# Altium integrated library Linear Technology Power Management Switching Regulator LT1074-LT8705.IntLib: 2252 symbols (part 116 of 148)
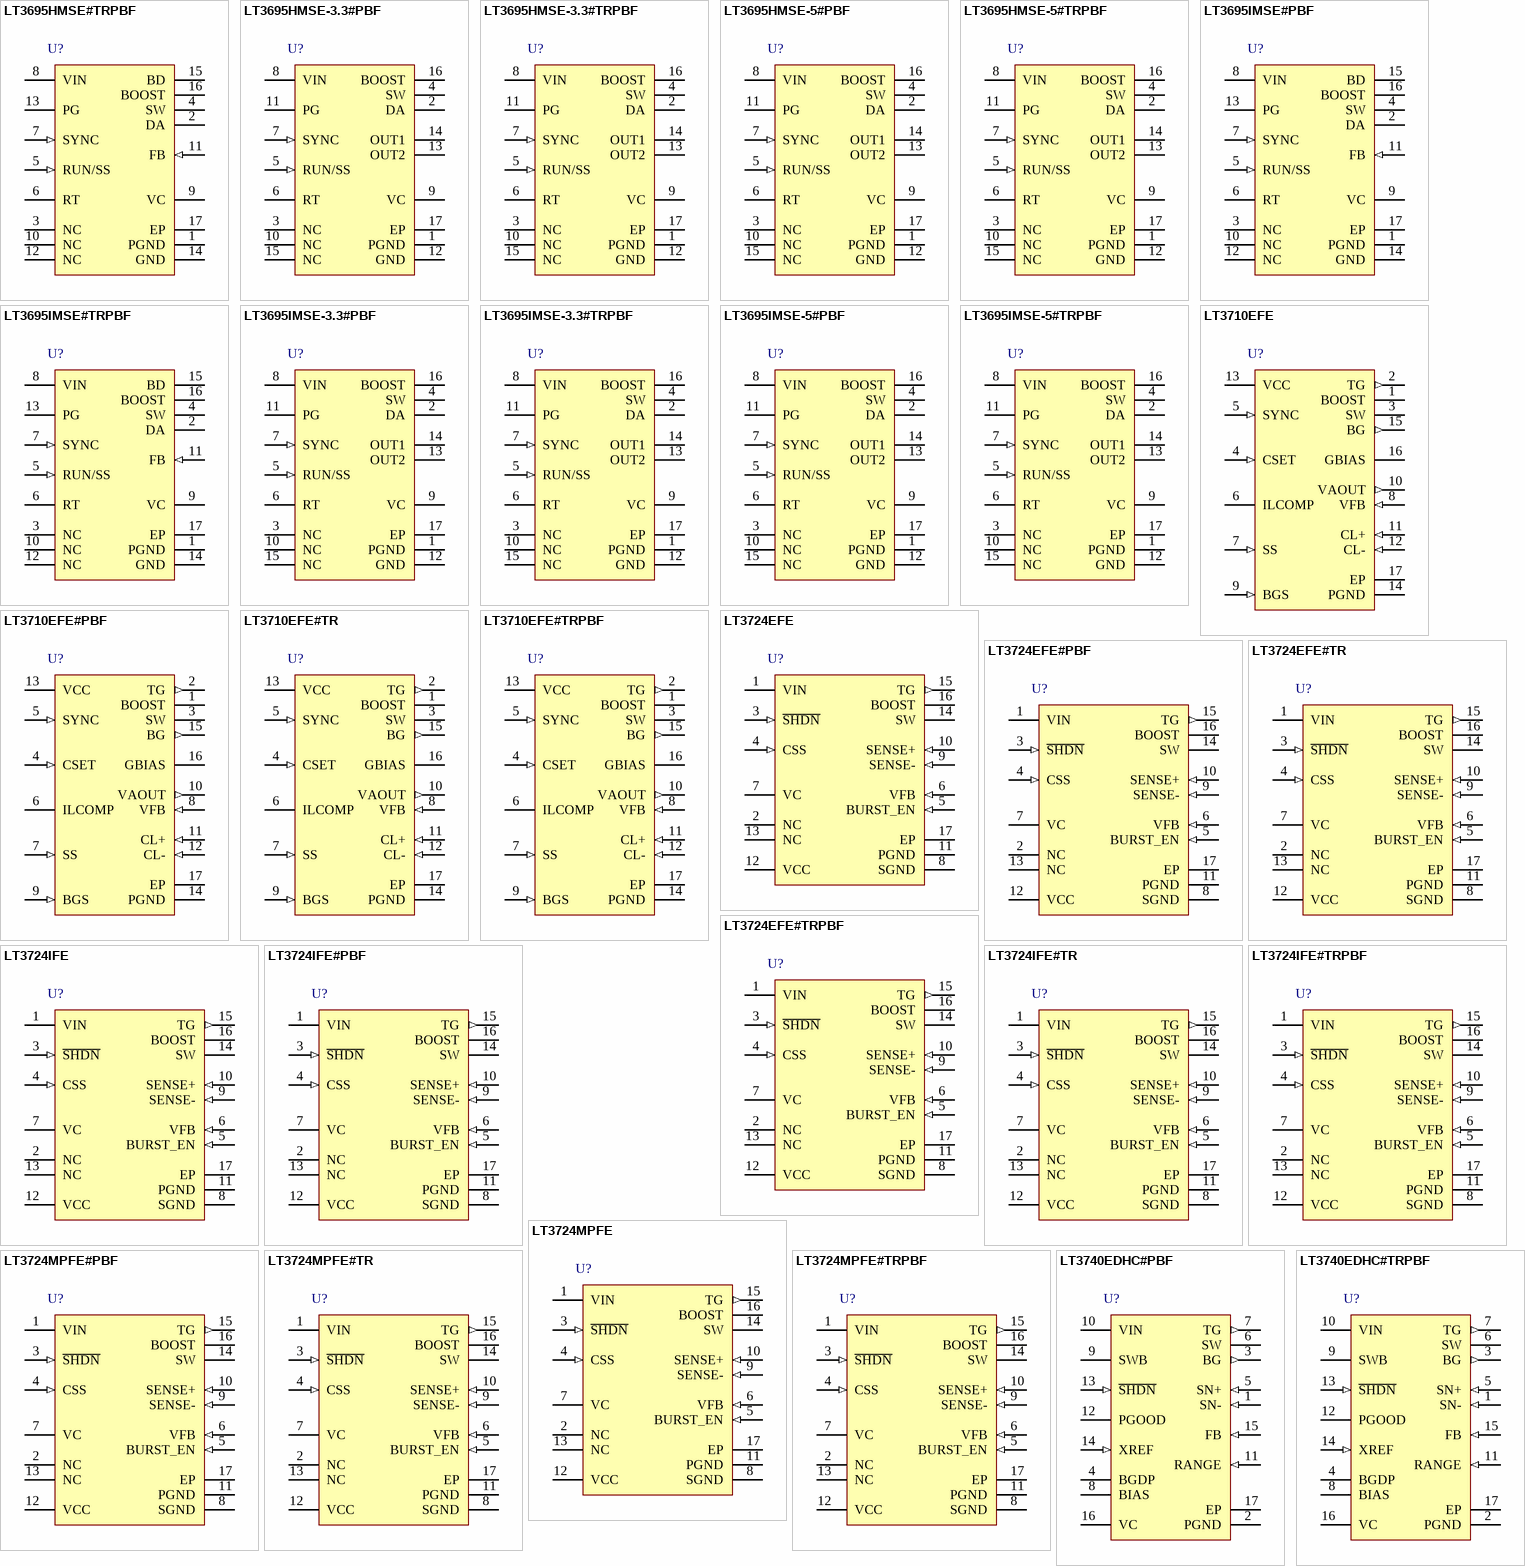
[diagram p186: symbols LT3695HMSE#TRPBF to LT3740EDHC#TRPBF]

## LT3710EFE#PBF
designator U?
Secondary Side Synchronous Post Regulator, Auxiliary Output in Isolated Power Supplies, 16-pin SOP (FE-16-EPV-BA), -40 to 125 degC, Pb-Free; Manufacturer: Linear Technology; PartNumber: LT3710EFE#PBF; Number of Outputs: 1; PackageVersion: Rev. I, 05/2011; PackageReference: FE-16; PackageDescription: 16-Pin Plastic TSSOP, Body 5 x 4.4 mm, Pitch 0.65 mm; Supplier 1: Digi-Key; Supplier Part Number 1: LT3710EFE#PBF-ND; Supplier 2: Newark; Supplier Part Number 2: 57M8577; RoHS: TRUE; Mounting Technology: Surface Mount; ComponentLink1Description: Manufacturer URL; ComponentLink1URL: http://www.linear.com/; ComponentLink2Description: Datasheet; ComponentLink2URL: http://cds.linear.com/docs/en/datasheet/3710f.pdf; ComponentLink3Description: Package Specification; ComponentLink3URL: http://cds.linear.com/docs/en/packaging/05081663_J_FE16(BA).pdf
footprint LT-FE-16-EPV-BA_N (SOP, 16-Leads, Body 5x4.4mm, Pitch 0.65mm, Thermal Pad 2.74x2.74mm, IPC Medium Density)
footprint LT-FE-16-EPV-BA_L (SOP, 16-Leads, Body 5x4.4mm, Pitch 0.65mm, Thermal Pad 2.74x2.74mm, IPC High Density)
footprint LT-FE-16-EPV-BA_M (SOP, 16-Leads, Body 5x4.4mm, Pitch 0.65mm, Thermal Pad 2.74x2.74mm, IPC Low Density)
pins: 1 BOOST "Topside (Boosted) Driver Supply. This pin is used to bootstrap and supply the topside power switch gate drive circuitry. In normal operation VBOOST is powered from the internally generated 8V GBIAS, VBOOST = VSW + 8.2V when (See Datasheet)", 2 TG (out) "Topside (Boosted) N-Channel MOSFET Driver. When TGATE is on, the voltage is equal to VSW + 6V.", 3 SW "Switch Node Connection to Inductor.", 4 CSET (in) "Oscillator Timing Pin. The capacitor on this pin sets the PWM switching frequency.", 5 SYNC (in) "Synchronization Input. This pin should be connected to the secondary side output of the power transformer with a series resistor. A filtering capacitor of 10pF is recommended.", 6 ILCOMP "Current Limit Amplifier Compensation Node. At current limit, CA1 pulls down on this pin to regulate the output current.", 7 SS (in) "Soft-Start. A capacitor on this pin sets the output ramp up rate. The typical time for SS to reach the programmed level is (C ?0.8V)/10uA.", 8 VFB (in) "Voltage Amplifier Inverting Input. A resistor divider to this pin sets the output voltage. Nominal voltage at this pin is 0.8V.", 9 BGS (in) "Bottom Gate Switching Control. CA2 monitors the inductor current and prohibits BGATE from turning on when the inductor current is low (below 8mV across the current sense resistor RS1) to allow discontinous mode operation. (See Datasheet)", 10 VAOUT (out) "Voltage Amplifier Output.", 11 CL+ (in) "Current Limit Amplifier Positive Input. The threshold is set at 70mV.", 12 CL- (in) "Current Limit Amplifier Negative Input. When used, CL- is connected to the output capacitor side of the current + sense resistor and CL+ is connected to the inductor side of the current sense resistor.", 13 VCC (power) "Supply of the IC. For proper bypassing, a low ESR capacitor is required.", 14 PGND (power) "Ground of the Bottom Side N-Channel MOSFET Driver.", 15 BG (out) "Bottom Side N-Channel MOSFET Driver.", 16 GBIAS "8V Regulator Output for Boostrapping VBOOST . A bypass capacitor of at least 2uF is needed.", 17 EP (power) "Connect to PGND (Pin 14)."

## LT3710EFE#TR
designator U?
Secondary Side Synchronous Post Regulator, Auxiliary Output in Isolated Power Supplies, 16-pin SOP (FE-16-EPV-BA), -40 to 125 degC, Tape and Reel; Manufacturer: Linear Technology; PartNumber: LT3710EFE#TR; Number of Outputs: 1; PackageVersion: Rev. I, 05/2011; PackageReference: FE-16; PackageDescription: 16-Pin Plastic TSSOP, Body 5 x 4.4 mm, Pitch 0.65 mm; Supplier 1: Digi-Key; Supplier Part Number 1: LT3710EFE#TR-ND; Packing: Tape and Reel; RoHS: FALSE; Mounting Technology: Surface Mount; ComponentLink1Description: Manufacturer URL; ComponentLink1URL: http://www.linear.com/; ComponentLink2Description: Datasheet; ComponentLink2URL: http://cds.linear.com/docs/en/datasheet/3710f.pdf; ComponentLink3Description: Package Specification; ComponentLink3URL: http://cds.linear.com/docs/en/packaging/05081663_J_FE16(BA).pdf
footprint LT-FE-16-EPV-BA_N (SOP, 16-Leads, Body 5x4.4mm, Pitch 0.65mm, Thermal Pad 2.74x2.74mm, IPC Medium Density)
footprint LT-FE-16-EPV-BA_L (SOP, 16-Leads, Body 5x4.4mm, Pitch 0.65mm, Thermal Pad 2.74x2.74mm, IPC High Density)
footprint LT-FE-16-EPV-BA_M (SOP, 16-Leads, Body 5x4.4mm, Pitch 0.65mm, Thermal Pad 2.74x2.74mm, IPC Low Density)
pins: 1 BOOST "Topside (Boosted) Driver Supply. This pin is used to bootstrap and supply the topside power switch gate drive circuitry. In normal operation VBOOST is powered from the internally generated 8V GBIAS, VBOOST = VSW + 8.2V when (See Datasheet)", 2 TG (out) "Topside (Boosted) N-Channel MOSFET Driver. When TGATE is on, the voltage is equal to VSW + 6V.", 3 SW "Switch Node Connection to Inductor.", 4 CSET (in) "Oscillator Timing Pin. The capacitor on this pin sets the PWM switching frequency.", 5 SYNC (in) "Synchronization Input. This pin should be connected to the secondary side output of the power transformer with a series resistor. A filtering capacitor of 10pF is recommended.", 6 ILCOMP "Current Limit Amplifier Compensation Node. At current limit, CA1 pulls down on this pin to regulate the output current.", 7 SS (in) "Soft-Start. A capacitor on this pin sets the output ramp up rate. The typical time for SS to reach the programmed level is (C ?0.8V)/10uA.", 8 VFB (in) "Voltage Amplifier Inverting Input. A resistor divider to this pin sets the output voltage. Nominal voltage at this pin is 0.8V.", 9 BGS (in) "Bottom Gate Switching Control. CA2 monitors the inductor current and prohibits BGATE from turning on when the inductor current is low (below 8mV across the current sense resistor RS1) to allow discontinous mode operation. (See Datasheet)", 10 VAOUT (out) "Voltage Amplifier Output.", 11 CL+ (in) "Current Limit Amplifier Positive Input. The threshold is set at 70mV.", 12 CL- (in) "Current Limit Amplifier Negative Input. When used, CL- is connected to the output capacitor side of the current + sense resistor and CL+ is connected to the inductor side of the current sense resistor.", 13 VCC (power) "Supply of the IC. For proper bypassing, a low ESR capacitor is required.", 14 PGND (power) "Ground of the Bottom Side N-Channel MOSFET Driver.", 15 BG (out) "Bottom Side N-Channel MOSFET Driver.", 16 GBIAS "8V Regulator Output for Boostrapping VBOOST . A bypass capacitor of at least 2uF is needed.", 17 EP (power) "Connect to PGND (Pin 14)."

## LT3710EFE#TRPBF
designator U?
Secondary Side Synchronous Post Regulator, Auxiliary Output in Isolated Power Supplies, 16-pin SOP (FE-16-EPV-BA), -40 to 125 degC, Pb-Free, Tape and Reel; Manufacturer: Linear Technology; PartNumber: LT3710EFE#TRPBF; Number of Outputs: 1; PackageVersion: Rev. I, 05/2011; PackageReference: FE-16; PackageDescription: 16-Pin Plastic TSSOP, Body 5 x 4.4 mm, Pitch 0.65 mm; Supplier 1: Digi-Key; Supplier Part Number 1: LT3710EFE#TRPBF-ND; Packing: Tape and Reel; RoHS: TRUE; Mounting Technology: Surface Mount; ComponentLink1Description: Manufacturer URL; ComponentLink1URL: http://www.linear.com/; ComponentLink2Description: Datasheet; ComponentLink2URL: http://cds.linear.com/docs/en/datasheet/3710f.pdf; ComponentLink3Description: Package Specification; ComponentLink3URL: http://cds.linear.com/docs/en/packaging/05081663_J_FE16(BA).pdf
footprint LT-FE-16-EPV-BA_N (SOP, 16-Leads, Body 5x4.4mm, Pitch 0.65mm, Thermal Pad 2.74x2.74mm, IPC Medium Density)
footprint LT-FE-16-EPV-BA_L (SOP, 16-Leads, Body 5x4.4mm, Pitch 0.65mm, Thermal Pad 2.74x2.74mm, IPC High Density)
footprint LT-FE-16-EPV-BA_M (SOP, 16-Leads, Body 5x4.4mm, Pitch 0.65mm, Thermal Pad 2.74x2.74mm, IPC Low Density)
pins: 1 BOOST "Topside (Boosted) Driver Supply. This pin is used to bootstrap and supply the topside power switch gate drive circuitry. In normal operation VBOOST is powered from the internally generated 8V GBIAS, VBOOST = VSW + 8.2V when (See Datasheet)", 2 TG (out) "Topside (Boosted) N-Channel MOSFET Driver. When TGATE is on, the voltage is equal to VSW + 6V.", 3 SW "Switch Node Connection to Inductor.", 4 CSET (in) "Oscillator Timing Pin. The capacitor on this pin sets the PWM switching frequency.", 5 SYNC (in) "Synchronization Input. This pin should be connected to the secondary side output of the power transformer with a series resistor. A filtering capacitor of 10pF is recommended.", 6 ILCOMP "Current Limit Amplifier Compensation Node. At current limit, CA1 pulls down on this pin to regulate the output current.", 7 SS (in) "Soft-Start. A capacitor on this pin sets the output ramp up rate. The typical time for SS to reach the programmed level is (C ?0.8V)/10uA.", 8 VFB (in) "Voltage Amplifier Inverting Input. A resistor divider to this pin sets the output voltage. Nominal voltage at this pin is 0.8V.", 9 BGS (in) "Bottom Gate Switching Control. CA2 monitors the inductor current and prohibits BGATE from turning on when the inductor current is low (below 8mV across the current sense resistor RS1) to allow discontinous mode operation. (See Datasheet)", 10 VAOUT (out) "Voltage Amplifier Output.", 11 CL+ (in) "Current Limit Amplifier Positive Input. The threshold is set at 70mV.", 12 CL- (in) "Current Limit Amplifier Negative Input. When used, CL- is connected to the output capacitor side of the current + sense resistor and CL+ is connected to the inductor side of the current sense resistor.", 13 VCC (power) "Supply of the IC. For proper bypassing, a low ESR capacitor is required.", 14 PGND (power) "Ground of the Bottom Side N-Channel MOSFET Driver.", 15 BG (out) "Bottom Side N-Channel MOSFET Driver.", 16 GBIAS "8V Regulator Output for Boostrapping VBOOST . A bypass capacitor of at least 2uF is needed.", 17 EP (power) "Connect to PGND (Pin 14)."

## LT3724EFE
designator U?
High Voltage, Current Mode Switching Regulator Controller, 16-pin SOP (FE-16-EPV-BC), -40 to 125 degC; Manufacturer: Linear Technology; PartNumber: LT3724EFE; Number of Outputs: 1; DatasheetVersion: Rev. D; PackageVersion: Rev. J, 11/2012; PackageReference: FE-16; PackageDescription: 16-Pin Plastic TSSOP, Body 5 x 4.4 mm, Pitch 0.65 mm; Supplier 1: Newark; Supplier Part Number 1: 57M8580; RoHS: FALSE; Mounting Technology: Surface Mount; ComponentLink1Description: Manufacturer URL; ComponentLink1URL: http://www.linear.com/; ComponentLink2Description: Datasheet; ComponentLink2URL: http://cds.linear.com/docs/en/datasheet/3724fd.pdf; ComponentLink3Description: Package Specification; ComponentLink3URL: http://cds.linear.com/docs/en/packaging/05081663__J_FE16(BC).pdf
footprint LT-FE-16-EPV-BC_N (SOP, 16-Leads, Body 5.1x4.5mm, Pitch 0.65mm, Thermal Pad 3.58x2.94mm, IPC Medium Density)
footprint LT-FE-16-EPV-BC_L (SOP, 16-Leads, Body 5.1x4.5mm, Pitch 0.65mm, Thermal Pad 3.58x2.94mm, IPC High Density)
footprint LT-FE-16-EPV-BC_M (SOP, 16-Leads, Body 5.1x4.5mm, Pitch 0.65mm, Thermal Pad 3.58x2.94mm, IPC Low Density)
pins: 1 VIN (power) "The VIN pin is the main supply pin and should be decoupled to SGND with a low ESR capacitor located close to the pin.", 2 NC "No Connection.", 3 ~{SHDN} (in) "The S\H\D\N\ pin has a precision IC enable threshold of 1.35V (rising) with 120mV of hysteresis. It is used to implement an undervoltage lockout (UVLO) circuit. See Application Information section for implementing a UVLO (See Datasheet)", 4 CSS (in) "The soft-start pin is used to program the supply soft-start function. The pin is connected to VOUT via a ceramic capacitor (CSS) and 200kohm series resistor. During start-up, the supply output voltage slew rate is controlled (See Datasheet)", 5 BURST_EN (in) "The BURST_EN pin is used to enable or disable Burst Mode operation. Connect the BURST_EN pin to ground to enable the burst mode function. Connect the pin to VCC to disable the burst mode function.", 6 VFB (in) "The output voltage feedback pin, VFB, is externally connected to the supply output voltage via a resistive divider. The VFB pin is internally connected to the inverting input of the error amplifier. In regulation, VFB is 1.(See Datasheet)", 7 VC "The VC pin is the output of the error amplifier whose voltage corresponds to the maximum (peak) switch current per oscillator cycle. The error amplifier is typically configured as an integrator circuit by connecting an RC (See Datasheet)", 8 SGND (power) "The SGND pin is the low noise ground reference. It should be connected to the -VOUT side of the output capacitors. Careful layout of the PCB is necessary to keep high currents away from this SGND connection. See the (See Datasheet)", 9 SENSE- (in) "The SENSE- pin is the negative input for the current sense amplifier and is connected to the VOUT side of the sense resistor for step-down applications. The sensed inductor current limit is set to 150mV across the SENSE (See Datasheet)", 10 SENSE+ (in) "The SENSE+ pin is the positive input for the current sense amplifier and is connected to the inductor side of the sense resistor for step-down applications. The sensed inductor current limit is set to 150mV across the SENSE (See Datasheet)", 11 PGND (power) "The PGND pin is the high-current ground reference for internal low side switch and the VCC regulator circuit. Connect the pin directly to the negative terminal of the VCC decoupling capacitor. See the Application Information (See Datasheet)", 12 VCC (power) "The VCC pin is the internal bias supply decoupling node. Use a low ESR 1uF ceramic capacitor to decouple this node to PGND. Most internal IC functions are powered from this bias supply. An external diode connected from VCC (See Datasheet)", 13 NC "No Connection.", 14 SW "In step-down applications the SW pin is connected to the cathode of an external clamping Schottky diode, the source of the power MOSFET and the inductor. The SW node voltage swing is from VIN during the on-time of the power (See Datasheet)", 15 TG (out) "The TG pin is the bootstrapped gate drive for the top N-Channel MOSFET. Since very fast high currents are driven from this pin, connect it to the gate of the power MOSFET with a short and wide, typically 0.02?width, PC(See Datasheet)", 16 BOOST "The BOOST pin is the supply for the bootstrapped gate drive and is externally connected to a low ESR ceramic boost capacitor referenced to SW pin. The recommended value of the BOOST capacitor, CBOOST, is 50 times greater (See Datasheet)", 17 EP (power) "The exposed leadframe is internally connected to the SGND pin. Solder the exposed pad to the PCB ground for electrical contact and optimal thermal performance."

## LT3724EFE#PBF
designator U?
High Voltage, Current Mode Switching Regulator Controller, 16-pin SOP (FE-16-EPV-BC), -40 to 125 degC, Pb-Free; Manufacturer: Linear Technology; PartNumber: LT3724EFE#PBF; Number of Outputs: 1; DatasheetVersion: Rev. D; PackageVersion: Rev. J, 11/2012; PackageReference: FE-16; PackageDescription: 16-Pin Plastic TSSOP, Body 5 x 4.4 mm, Pitch 0.65 mm; Supplier 1: Digi-Key; Supplier Part Number 1: LT3724EFE#PBF-ND; Supplier 2: Farnell; Supplier Part Number 2: 1273820; Supplier 3: Newark; Supplier Part Number 3: 57M8581; RoHS: TRUE; Mounting Technology: Surface Mount; ComponentLink1Description: Manufacturer URL; ComponentLink1URL: http://www.linear.com/; ComponentLink2Description: Datasheet; ComponentLink2URL: http://cds.linear.com/docs/en/datasheet/3724fd.pdf; ComponentLink3Description: Package Specification; ComponentLink3URL: http://cds.linear.com/docs/en/packaging/05081663__J_FE16(BC).pdf
footprint LT-FE-16-EPV-BC_N (SOP, 16-Leads, Body 5.1x4.5mm, Pitch 0.65mm, Thermal Pad 3.58x2.94mm, IPC Medium Density)
footprint LT-FE-16-EPV-BC_L (SOP, 16-Leads, Body 5.1x4.5mm, Pitch 0.65mm, Thermal Pad 3.58x2.94mm, IPC High Density)
footprint LT-FE-16-EPV-BC_M (SOP, 16-Leads, Body 5.1x4.5mm, Pitch 0.65mm, Thermal Pad 3.58x2.94mm, IPC Low Density)
pins: 1 VIN (power) "The VIN pin is the main supply pin and should be decoupled to SGND with a low ESR capacitor located close to the pin.", 2 NC "No Connection.", 3 ~{SHDN} (in) "The S\H\D\N\ pin has a precision IC enable threshold of 1.35V (rising) with 120mV of hysteresis. It is used to implement an undervoltage lockout (UVLO) circuit. See Application Information section for implementing a UVLO (See Datasheet)", 4 CSS (in) "The soft-start pin is used to program the supply soft-start function. The pin is connected to VOUT via a ceramic capacitor (CSS) and 200kohm series resistor. During start-up, the supply output voltage slew rate is controlled (See Datasheet)", 5 BURST_EN (in) "The BURST_EN pin is used to enable or disable Burst Mode operation. Connect the BURST_EN pin to ground to enable the burst mode function. Connect the pin to VCC to disable the burst mode function.", 6 VFB (in) "The output voltage feedback pin, VFB, is externally connected to the supply output voltage via a resistive divider. The VFB pin is internally connected to the inverting input of the error amplifier. In regulation, VFB is 1.(See Datasheet)", 7 VC "The VC pin is the output of the error amplifier whose voltage corresponds to the maximum (peak) switch current per oscillator cycle. The error amplifier is typically configured as an integrator circuit by connecting an RC (See Datasheet)", 8 SGND (power) "The SGND pin is the low noise ground reference. It should be connected to the -VOUT side of the output capacitors. Careful layout of the PCB is necessary to keep high currents away from this SGND connection. See the (See Datasheet)", 9 SENSE- (in) "The SENSE- pin is the negative input for the current sense amplifier and is connected to the VOUT side of the sense resistor for step-down applications. The sensed inductor current limit is set to 150mV across the SENSE (See Datasheet)", 10 SENSE+ (in) "The SENSE+ pin is the positive input for the current sense amplifier and is connected to the inductor side of the sense resistor for step-down applications. The sensed inductor current limit is set to 150mV across the SENSE (See Datasheet)", 11 PGND (power) "The PGND pin is the high-current ground reference for internal low side switch and the VCC regulator circuit. Connect the pin directly to the negative terminal of the VCC decoupling capacitor. See the Application Information (See Datasheet)", 12 VCC (power) "The VCC pin is the internal bias supply decoupling node. Use a low ESR 1uF ceramic capacitor to decouple this node to PGND. Most internal IC functions are powered from this bias supply. An external diode connected from VCC (See Datasheet)", 13 NC "No Connection.", 14 SW "In step-down applications the SW pin is connected to the cathode of an external clamping Schottky diode, the source of the power MOSFET and the inductor. The SW node voltage swing is from VIN during the on-time of the power (See Datasheet)", 15 TG (out) "The TG pin is the bootstrapped gate drive for the top N-Channel MOSFET. Since very fast high currents are driven from this pin, connect it to the gate of the power MOSFET with a short and wide, typically 0.02?width, PC(See Datasheet)", 16 BOOST "The BOOST pin is the supply for the bootstrapped gate drive and is externally connected to a low ESR ceramic boost capacitor referenced to SW pin. The recommended value of the BOOST capacitor, CBOOST, is 50 times greater (See Datasheet)", 17 EP (power) "The exposed leadframe is internally connected to the SGND pin. Solder the exposed pad to the PCB ground for electrical contact and optimal thermal performance."

## LT3724EFE#TR
designator U?
High Voltage, Current Mode Switching Regulator Controller, 16-pin SOP (FE-16-EPV-BC), -40 to 125 degC, Tape and Reel; Manufacturer: Linear Technology; PartNumber: LT3724EFE#TR; Number of Outputs: 1; DatasheetVersion: Rev. D; PackageVersion: Rev. J, 11/2012; PackageReference: FE-16; PackageDescription: 16-Pin Plastic TSSOP, Body 5 x 4.4 mm, Pitch 0.65 mm; Packing: Tape and Reel; RoHS: FALSE; Mounting Technology: Surface Mount; ComponentLink1Description: Manufacturer URL; ComponentLink1URL: http://www.linear.com/; ComponentLink2Description: Datasheet; ComponentLink2URL: http://cds.linear.com/docs/en/datasheet/3724fd.pdf; ComponentLink3Description: Package Specification; ComponentLink3URL: http://cds.linear.com/docs/en/packaging/05081663__J_FE16(BC).pdf
footprint LT-FE-16-EPV-BC_N (SOP, 16-Leads, Body 5.1x4.5mm, Pitch 0.65mm, Thermal Pad 3.58x2.94mm, IPC Medium Density)
footprint LT-FE-16-EPV-BC_L (SOP, 16-Leads, Body 5.1x4.5mm, Pitch 0.65mm, Thermal Pad 3.58x2.94mm, IPC High Density)
footprint LT-FE-16-EPV-BC_M (SOP, 16-Leads, Body 5.1x4.5mm, Pitch 0.65mm, Thermal Pad 3.58x2.94mm, IPC Low Density)
pins: 1 VIN (power) "The VIN pin is the main supply pin and should be decoupled to SGND with a low ESR capacitor located close to the pin.", 2 NC "No Connection.", 3 ~{SHDN} (in) "The S\H\D\N\ pin has a precision IC enable threshold of 1.35V (rising) with 120mV of hysteresis. It is used to implement an undervoltage lockout (UVLO) circuit. See Application Information section for implementing a UVLO (See Datasheet)", 4 CSS (in) "The soft-start pin is used to program the supply soft-start function. The pin is connected to VOUT via a ceramic capacitor (CSS) and 200kohm series resistor. During start-up, the supply output voltage slew rate is controlled (See Datasheet)", 5 BURST_EN (in) "The BURST_EN pin is used to enable or disable Burst Mode operation. Connect the BURST_EN pin to ground to enable the burst mode function. Connect the pin to VCC to disable the burst mode function.", 6 VFB (in) "The output voltage feedback pin, VFB, is externally connected to the supply output voltage via a resistive divider. The VFB pin is internally connected to the inverting input of the error amplifier. In regulation, VFB is 1.(See Datasheet)", 7 VC "The VC pin is the output of the error amplifier whose voltage corresponds to the maximum (peak) switch current per oscillator cycle. The error amplifier is typically configured as an integrator circuit by connecting an RC (See Datasheet)", 8 SGND (power) "The SGND pin is the low noise ground reference. It should be connected to the -VOUT side of the output capacitors. Careful layout of the PCB is necessary to keep high currents away from this SGND connection. See the (See Datasheet)", 9 SENSE- (in) "The SENSE- pin is the negative input for the current sense amplifier and is connected to the VOUT side of the sense resistor for step-down applications. The sensed inductor current limit is set to 150mV across the SENSE (See Datasheet)", 10 SENSE+ (in) "The SENSE+ pin is the positive input for the current sense amplifier and is connected to the inductor side of the sense resistor for step-down applications. The sensed inductor current limit is set to 150mV across the SENSE (See Datasheet)", 11 PGND (power) "The PGND pin is the high-current ground reference for internal low side switch and the VCC regulator circuit. Connect the pin directly to the negative terminal of the VCC decoupling capacitor. See the Application Information (See Datasheet)", 12 VCC (power) "The VCC pin is the internal bias supply decoupling node. Use a low ESR 1uF ceramic capacitor to decouple this node to PGND. Most internal IC functions are powered from this bias supply. An external diode connected from VCC (See Datasheet)", 13 NC "No Connection.", 14 SW "In step-down applications the SW pin is connected to the cathode of an external clamping Schottky diode, the source of the power MOSFET and the inductor. The SW node voltage swing is from VIN during the on-time of the power (See Datasheet)", 15 TG (out) "The TG pin is the bootstrapped gate drive for the top N-Channel MOSFET. Since very fast high currents are driven from this pin, connect it to the gate of the power MOSFET with a short and wide, typically 0.02?width, PC(See Datasheet)", 16 BOOST "The BOOST pin is the supply for the bootstrapped gate drive and is externally connected to a low ESR ceramic boost capacitor referenced to SW pin. The recommended value of the BOOST capacitor, CBOOST, is 50 times greater (See Datasheet)", 17 EP (power) "The exposed leadframe is internally connected to the SGND pin. Solder the exposed pad to the PCB ground for electrical contact and optimal thermal performance."

## LT3724EFE#TRPBF
designator U?
High Voltage, Current Mode Switching Regulator Controller, 16-pin SOP (FE-16-EPV-BC), -40 to 125 degC, Pb-Free, Tape and Reel; Manufacturer: Linear Technology; PartNumber: LT3724EFE#TRPBF; Number of Outputs: 1; DatasheetVersion: Rev. D; PackageVersion: Rev. J, 11/2012; PackageReference: FE-16; PackageDescription: 16-Pin Plastic TSSOP, Body 5 x 4.4 mm, Pitch 0.65 mm; Supplier 1: Digi-Key; Supplier Part Number 1: LT3724EFE#TRPBF-ND; Packing: Tape and Reel; RoHS: TRUE; Mounting Technology: Surface Mount; ComponentLink1Description: Manufacturer URL; ComponentLink1URL: http://www.linear.com/; ComponentLink2Description: Datasheet; ComponentLink2URL: http://cds.linear.com/docs/en/datasheet/3724fd.pdf; ComponentLink3Description: Package Specification; ComponentLink3URL: http://cds.linear.com/docs/en/packaging/05081663__J_FE16(BC).pdf
footprint LT-FE-16-EPV-BC_N (SOP, 16-Leads, Body 5.1x4.5mm, Pitch 0.65mm, Thermal Pad 3.58x2.94mm, IPC Medium Density)
footprint LT-FE-16-EPV-BC_L (SOP, 16-Leads, Body 5.1x4.5mm, Pitch 0.65mm, Thermal Pad 3.58x2.94mm, IPC High Density)
footprint LT-FE-16-EPV-BC_M (SOP, 16-Leads, Body 5.1x4.5mm, Pitch 0.65mm, Thermal Pad 3.58x2.94mm, IPC Low Density)
pins: 1 VIN (power) "The VIN pin is the main supply pin and should be decoupled to SGND with a low ESR capacitor located close to the pin.", 2 NC "No Connection.", 3 ~{SHDN} (in) "The S\H\D\N\ pin has a precision IC enable threshold of 1.35V (rising) with 120mV of hysteresis. It is used to implement an undervoltage lockout (UVLO) circuit. See Application Information section for implementing a UVLO (See Datasheet)", 4 CSS (in) "The soft-start pin is used to program the supply soft-start function. The pin is connected to VOUT via a ceramic capacitor (CSS) and 200kohm series resistor. During start-up, the supply output voltage slew rate is controlled (See Datasheet)", 5 BURST_EN (in) "The BURST_EN pin is used to enable or disable Burst Mode operation. Connect the BURST_EN pin to ground to enable the burst mode function. Connect the pin to VCC to disable the burst mode function.", 6 VFB (in) "The output voltage feedback pin, VFB, is externally connected to the supply output voltage via a resistive divider. The VFB pin is internally connected to the inverting input of the error amplifier. In regulation, VFB is 1.(See Datasheet)", 7 VC "The VC pin is the output of the error amplifier whose voltage corresponds to the maximum (peak) switch current per oscillator cycle. The error amplifier is typically configured as an integrator circuit by connecting an RC (See Datasheet)", 8 SGND (power) "The SGND pin is the low noise ground reference. It should be connected to the -VOUT side of the output capacitors. Careful layout of the PCB is necessary to keep high currents away from this SGND connection. See the (See Datasheet)", 9 SENSE- (in) "The SENSE- pin is the negative input for the current sense amplifier and is connected to the VOUT side of the sense resistor for step-down applications. The sensed inductor current limit is set to 150mV across the SENSE (See Datasheet)", 10 SENSE+ (in) "The SENSE+ pin is the positive input for the current sense amplifier and is connected to the inductor side of the sense resistor for step-down applications. The sensed inductor current limit is set to 150mV across the SENSE (See Datasheet)", 11 PGND (power) "The PGND pin is the high-current ground reference for internal low side switch and the VCC regulator circuit. Connect the pin directly to the negative terminal of the VCC decoupling capacitor. See the Application Information (See Datasheet)", 12 VCC (power) "The VCC pin is the internal bias supply decoupling node. Use a low ESR 1uF ceramic capacitor to decouple this node to PGND. Most internal IC functions are powered from this bias supply. An external diode connected from VCC (See Datasheet)", 13 NC "No Connection.", 14 SW "In step-down applications the SW pin is connected to the cathode of an external clamping Schottky diode, the source of the power MOSFET and the inductor. The SW node voltage swing is from VIN during the on-time of the power (See Datasheet)", 15 TG (out) "The TG pin is the bootstrapped gate drive for the top N-Channel MOSFET. Since very fast high currents are driven from this pin, connect it to the gate of the power MOSFET with a short and wide, typically 0.02?width, PC(See Datasheet)", 16 BOOST "The BOOST pin is the supply for the bootstrapped gate drive and is externally connected to a low ESR ceramic boost capacitor referenced to SW pin. The recommended value of the BOOST capacitor, CBOOST, is 50 times greater (See Datasheet)", 17 EP (power) "The exposed leadframe is internally connected to the SGND pin. Solder the exposed pad to the PCB ground for electrical contact and optimal thermal performance."

## LT3724IFE
designator U?
High Voltage, Current Mode Switching Regulator Controller, 16-pin SOP (FE-16-EPV-BC), -40 to 125 degC; Manufacturer: Linear Technology; PartNumber: LT3724IFE; Number of Outputs: 1; DatasheetVersion: Rev. D; PackageVersion: Rev. J, 11/2012; PackageReference: FE-16; PackageDescription: 16-Pin Plastic TSSOP, Body 5 x 4.4 mm, Pitch 0.65 mm; RoHS: FALSE; Mounting Technology: Surface Mount; ComponentLink1Description: Manufacturer URL; ComponentLink1URL: http://www.linear.com/; ComponentLink2Description: Datasheet; ComponentLink2URL: http://cds.linear.com/docs/en/datasheet/3724fd.pdf; ComponentLink3Description: Package Specification; ComponentLink3URL: http://cds.linear.com/docs/en/packaging/05081663__J_FE16(BC).pdf
footprint LT-FE-16-EPV-BC_N (SOP, 16-Leads, Body 5.1x4.5mm, Pitch 0.65mm, Thermal Pad 3.58x2.94mm, IPC Medium Density)
footprint LT-FE-16-EPV-BC_L (SOP, 16-Leads, Body 5.1x4.5mm, Pitch 0.65mm, Thermal Pad 3.58x2.94mm, IPC High Density)
footprint LT-FE-16-EPV-BC_M (SOP, 16-Leads, Body 5.1x4.5mm, Pitch 0.65mm, Thermal Pad 3.58x2.94mm, IPC Low Density)
pins: 1 VIN (power) "The VIN pin is the main supply pin and should be decoupled to SGND with a low ESR capacitor located close to the pin.", 2 NC "No Connection.", 3 ~{SHDN} (in) "The S\H\D\N\ pin has a precision IC enable threshold of 1.35V (rising) with 120mV of hysteresis. It is used to implement an undervoltage lockout (UVLO) circuit. See Application Information section for implementing a UVLO (See Datasheet)", 4 CSS (in) "The soft-start pin is used to program the supply soft-start function. The pin is connected to VOUT via a ceramic capacitor (CSS) and 200kohm series resistor. During start-up, the supply output voltage slew rate is controlled (See Datasheet)", 5 BURST_EN (in) "The BURST_EN pin is used to enable or disable Burst Mode operation. Connect the BURST_EN pin to ground to enable the burst mode function. Connect the pin to VCC to disable the burst mode function.", 6 VFB (in) "The output voltage feedback pin, VFB, is externally connected to the supply output voltage via a resistive divider. The VFB pin is internally connected to the inverting input of the error amplifier. In regulation, VFB is 1.(See Datasheet)", 7 VC "The VC pin is the output of the error amplifier whose voltage corresponds to the maximum (peak) switch current per oscillator cycle. The error amplifier is typically configured as an integrator circuit by connecting an RC (See Datasheet)", 8 SGND (power) "The SGND pin is the low noise ground reference. It should be connected to the -VOUT side of the output capacitors. Careful layout of the PCB is necessary to keep high currents away from this SGND connection. See the (See Datasheet)", 9 SENSE- (in) "The SENSE- pin is the negative input for the current sense amplifier and is connected to the VOUT side of the sense resistor for step-down applications. The sensed inductor current limit is set to 150mV across the SENSE (See Datasheet)", 10 SENSE+ (in) "The SENSE+ pin is the positive input for the current sense amplifier and is connected to the inductor side of the sense resistor for step-down applications. The sensed inductor current limit is set to 150mV across the SENSE (See Datasheet)", 11 PGND (power) "The PGND pin is the high-current ground reference for internal low side switch and the VCC regulator circuit. Connect the pin directly to the negative terminal of the VCC decoupling capacitor. See the Application Information (See Datasheet)", 12 VCC (power) "The VCC pin is the internal bias supply decoupling node. Use a low ESR 1uF ceramic capacitor to decouple this node to PGND. Most internal IC functions are powered from this bias supply. An external diode connected from VCC (See Datasheet)", 13 NC "No Connection.", 14 SW "In step-down applications the SW pin is connected to the cathode of an external clamping Schottky diode, the source of the power MOSFET and the inductor. The SW node voltage swing is from VIN during the on-time of the power (See Datasheet)", 15 TG (out) "The TG pin is the bootstrapped gate drive for the top N-Channel MOSFET. Since very fast high currents are driven from this pin, connect it to the gate of the power MOSFET with a short and wide, typically 0.02?width, PC(See Datasheet)", 16 BOOST "The BOOST pin is the supply for the bootstrapped gate drive and is externally connected to a low ESR ceramic boost capacitor referenced to SW pin. The recommended value of the BOOST capacitor, CBOOST, is 50 times greater (See Datasheet)", 17 EP (power) "The exposed leadframe is internally connected to the SGND pin. Solder the exposed pad to the PCB ground for electrical contact and optimal thermal performance."

## LT3724IFE#PBF
designator U?
High Voltage, Current Mode Switching Regulator Controller, 16-pin SOP (FE-16-EPV-BC), -40 to 125 degC, Pb-Free; Manufacturer: Linear Technology; PartNumber: LT3724IFE#PBF; Number of Outputs: 1; DatasheetVersion: Rev. D; PackageVersion: Rev. J, 11/2012; PackageReference: FE-16; PackageDescription: 16-Pin Plastic TSSOP, Body 5 x 4.4 mm, Pitch 0.65 mm; Supplier 1: Digi-Key; Supplier Part Number 1: LT3724IFE#PBF-ND; Supplier 2: Farnell; Supplier Part Number 2: 2294947; Supplier 3: Newark; Supplier Part Number 3: 57M8585; RoHS: TRUE; Mounting Technology: Surface Mount; ComponentLink1Description: Manufacturer URL; ComponentLink1URL: http://www.linear.com/; ComponentLink2Description: Datasheet; ComponentLink2URL: http://cds.linear.com/docs/en/datasheet/3724fd.pdf; ComponentLink3Description: Package Specification; ComponentLink3URL: http://cds.linear.com/docs/en/packaging/05081663__J_FE16(BC).pdf
footprint LT-FE-16-EPV-BC_N (SOP, 16-Leads, Body 5.1x4.5mm, Pitch 0.65mm, Thermal Pad 3.58x2.94mm, IPC Medium Density)
footprint LT-FE-16-EPV-BC_L (SOP, 16-Leads, Body 5.1x4.5mm, Pitch 0.65mm, Thermal Pad 3.58x2.94mm, IPC High Density)
footprint LT-FE-16-EPV-BC_M (SOP, 16-Leads, Body 5.1x4.5mm, Pitch 0.65mm, Thermal Pad 3.58x2.94mm, IPC Low Density)
pins: 1 VIN (power) "The VIN pin is the main supply pin and should be decoupled to SGND with a low ESR capacitor located close to the pin.", 2 NC "No Connection.", 3 ~{SHDN} (in) "The S\H\D\N\ pin has a precision IC enable threshold of 1.35V (rising) with 120mV of hysteresis. It is used to implement an undervoltage lockout (UVLO) circuit. See Application Information section for implementing a UVLO (See Datasheet)", 4 CSS (in) "The soft-start pin is used to program the supply soft-start function. The pin is connected to VOUT via a ceramic capacitor (CSS) and 200kohm series resistor. During start-up, the supply output voltage slew rate is controlled (See Datasheet)", 5 BURST_EN (in) "The BURST_EN pin is used to enable or disable Burst Mode operation. Connect the BURST_EN pin to ground to enable the burst mode function. Connect the pin to VCC to disable the burst mode function.", 6 VFB (in) "The output voltage feedback pin, VFB, is externally connected to the supply output voltage via a resistive divider. The VFB pin is internally connected to the inverting input of the error amplifier. In regulation, VFB is 1.(See Datasheet)", 7 VC "The VC pin is the output of the error amplifier whose voltage corresponds to the maximum (peak) switch current per oscillator cycle. The error amplifier is typically configured as an integrator circuit by connecting an RC (See Datasheet)", 8 SGND (power) "The SGND pin is the low noise ground reference. It should be connected to the -VOUT side of the output capacitors. Careful layout of the PCB is necessary to keep high currents away from this SGND connection. See the (See Datasheet)", 9 SENSE- (in) "The SENSE- pin is the negative input for the current sense amplifier and is connected to the VOUT side of the sense resistor for step-down applications. The sensed inductor current limit is set to 150mV across the SENSE (See Datasheet)", 10 SENSE+ (in) "The SENSE+ pin is the positive input for the current sense amplifier and is connected to the inductor side of the sense resistor for step-down applications. The sensed inductor current limit is set to 150mV across the SENSE (See Datasheet)", 11 PGND (power) "The PGND pin is the high-current ground reference for internal low side switch and the VCC regulator circuit. Connect the pin directly to the negative terminal of the VCC decoupling capacitor. See the Application Information (See Datasheet)", 12 VCC (power) "The VCC pin is the internal bias supply decoupling node. Use a low ESR 1uF ceramic capacitor to decouple this node to PGND. Most internal IC functions are powered from this bias supply. An external diode connected from VCC (See Datasheet)", 13 NC "No Connection.", 14 SW "In step-down applications the SW pin is connected to the cathode of an external clamping Schottky diode, the source of the power MOSFET and the inductor. The SW node voltage swing is from VIN during the on-time of the power (See Datasheet)", 15 TG (out) "The TG pin is the bootstrapped gate drive for the top N-Channel MOSFET. Since very fast high currents are driven from this pin, connect it to the gate of the power MOSFET with a short and wide, typically 0.02?width, PC(See Datasheet)", 16 BOOST "The BOOST pin is the supply for the bootstrapped gate drive and is externally connected to a low ESR ceramic boost capacitor referenced to SW pin. The recommended value of the BOOST capacitor, CBOOST, is 50 times greater (See Datasheet)", 17 EP (power) "The exposed leadframe is internally connected to the SGND pin. Solder the exposed pad to the PCB ground for electrical contact and optimal thermal performance."

## LT3724IFE#TR
designator U?
High Voltage, Current Mode Switching Regulator Controller, 16-pin SOP (FE-16-EPV-BC), -40 to 125 degC, Tape and Reel; Manufacturer: Linear Technology; PartNumber: LT3724IFE#TR; Number of Outputs: 1; DatasheetVersion: Rev. D; PackageVersion: Rev. J, 11/2012; PackageReference: FE-16; PackageDescription: 16-Pin Plastic TSSOP, Body 5 x 4.4 mm, Pitch 0.65 mm; Packing: Tape and Reel; RoHS: FALSE; Mounting Technology: Surface Mount; ComponentLink1Description: Manufacturer URL; ComponentLink1URL: http://www.linear.com/; ComponentLink2Description: Datasheet; ComponentLink2URL: http://cds.linear.com/docs/en/datasheet/3724fd.pdf; ComponentLink3Description: Package Specification; ComponentLink3URL: http://cds.linear.com/docs/en/packaging/05081663__J_FE16(BC).pdf
footprint LT-FE-16-EPV-BC_N (SOP, 16-Leads, Body 5.1x4.5mm, Pitch 0.65mm, Thermal Pad 3.58x2.94mm, IPC Medium Density)
footprint LT-FE-16-EPV-BC_L (SOP, 16-Leads, Body 5.1x4.5mm, Pitch 0.65mm, Thermal Pad 3.58x2.94mm, IPC High Density)
footprint LT-FE-16-EPV-BC_M (SOP, 16-Leads, Body 5.1x4.5mm, Pitch 0.65mm, Thermal Pad 3.58x2.94mm, IPC Low Density)
pins: 1 VIN (power) "The VIN pin is the main supply pin and should be decoupled to SGND with a low ESR capacitor located close to the pin.", 2 NC "No Connection.", 3 ~{SHDN} (in) "The S\H\D\N\ pin has a precision IC enable threshold of 1.35V (rising) with 120mV of hysteresis. It is used to implement an undervoltage lockout (UVLO) circuit. See Application Information section for implementing a UVLO (See Datasheet)", 4 CSS (in) "The soft-start pin is used to program the supply soft-start function. The pin is connected to VOUT via a ceramic capacitor (CSS) and 200kohm series resistor. During start-up, the supply output voltage slew rate is controlled (See Datasheet)", 5 BURST_EN (in) "The BURST_EN pin is used to enable or disable Burst Mode operation. Connect the BURST_EN pin to ground to enable the burst mode function. Connect the pin to VCC to disable the burst mode function.", 6 VFB (in) "The output voltage feedback pin, VFB, is externally connected to the supply output voltage via a resistive divider. The VFB pin is internally connected to the inverting input of the error amplifier. In regulation, VFB is 1.(See Datasheet)", 7 VC "The VC pin is the output of the error amplifier whose voltage corresponds to the maximum (peak) switch current per oscillator cycle. The error amplifier is typically configured as an integrator circuit by connecting an RC (See Datasheet)", 8 SGND (power) "The SGND pin is the low noise ground reference. It should be connected to the -VOUT side of the output capacitors. Careful layout of the PCB is necessary to keep high currents away from this SGND connection. See the (See Datasheet)", 9 SENSE- (in) "The SENSE- pin is the negative input for the current sense amplifier and is connected to the VOUT side of the sense resistor for step-down applications. The sensed inductor current limit is set to 150mV across the SENSE (See Datasheet)", 10 SENSE+ (in) "The SENSE+ pin is the positive input for the current sense amplifier and is connected to the inductor side of the sense resistor for step-down applications. The sensed inductor current limit is set to 150mV across the SENSE (See Datasheet)", 11 PGND (power) "The PGND pin is the high-current ground reference for internal low side switch and the VCC regulator circuit. Connect the pin directly to the negative terminal of the VCC decoupling capacitor. See the Application Information (See Datasheet)", 12 VCC (power) "The VCC pin is the internal bias supply decoupling node. Use a low ESR 1uF ceramic capacitor to decouple this node to PGND. Most internal IC functions are powered from this bias supply. An external diode connected from VCC (See Datasheet)", 13 NC "No Connection.", 14 SW "In step-down applications the SW pin is connected to the cathode of an external clamping Schottky diode, the source of the power MOSFET and the inductor. The SW node voltage swing is from VIN during the on-time of the power (See Datasheet)", 15 TG (out) "The TG pin is the bootstrapped gate drive for the top N-Channel MOSFET. Since very fast high currents are driven from this pin, connect it to the gate of the power MOSFET with a short and wide, typically 0.02?width, PC(See Datasheet)", 16 BOOST "The BOOST pin is the supply for the bootstrapped gate drive and is externally connected to a low ESR ceramic boost capacitor referenced to SW pin. The recommended value of the BOOST capacitor, CBOOST, is 50 times greater (See Datasheet)", 17 EP (power) "The exposed leadframe is internally connected to the SGND pin. Solder the exposed pad to the PCB ground for electrical contact and optimal thermal performance."

## LT3724IFE#TRPBF
designator U?
High Voltage, Current Mode Switching Regulator Controller, 16-pin SOP (FE-16-EPV-BC), -40 to 125 degC, Pb-Free, Tape and Reel; Manufacturer: Linear Technology; PartNumber: LT3724IFE#TRPBF; Number of Outputs: 1; DatasheetVersion: Rev. D; PackageVersion: Rev. J, 11/2012; PackageReference: FE-16; PackageDescription: 16-Pin Plastic TSSOP, Body 5 x 4.4 mm, Pitch 0.65 mm; Supplier 1: Digi-Key; Supplier Part Number 1: LT3724IFE#TRPBF-ND; Packing: Tape and Reel; RoHS: TRUE; Mounting Technology: Surface Mount; ComponentLink1Description: Manufacturer URL; ComponentLink1URL: http://www.linear.com/; ComponentLink2Description: Datasheet; ComponentLink2URL: http://cds.linear.com/docs/en/datasheet/3724fd.pdf; ComponentLink3Description: Package Specification; ComponentLink3URL: http://cds.linear.com/docs/en/packaging/05081663__J_FE16(BC).pdf
footprint LT-FE-16-EPV-BC_N (SOP, 16-Leads, Body 5.1x4.5mm, Pitch 0.65mm, Thermal Pad 3.58x2.94mm, IPC Medium Density)
footprint LT-FE-16-EPV-BC_L (SOP, 16-Leads, Body 5.1x4.5mm, Pitch 0.65mm, Thermal Pad 3.58x2.94mm, IPC High Density)
footprint LT-FE-16-EPV-BC_M (SOP, 16-Leads, Body 5.1x4.5mm, Pitch 0.65mm, Thermal Pad 3.58x2.94mm, IPC Low Density)
pins: 1 VIN (power) "The VIN pin is the main supply pin and should be decoupled to SGND with a low ESR capacitor located close to the pin.", 2 NC "No Connection.", 3 ~{SHDN} (in) "The S\H\D\N\ pin has a precision IC enable threshold of 1.35V (rising) with 120mV of hysteresis. It is used to implement an undervoltage lockout (UVLO) circuit. See Application Information section for implementing a UVLO (See Datasheet)", 4 CSS (in) "The soft-start pin is used to program the supply soft-start function. The pin is connected to VOUT via a ceramic capacitor (CSS) and 200kohm series resistor. During start-up, the supply output voltage slew rate is controlled (See Datasheet)", 5 BURST_EN (in) "The BURST_EN pin is used to enable or disable Burst Mode operation. Connect the BURST_EN pin to ground to enable the burst mode function. Connect the pin to VCC to disable the burst mode function.", 6 VFB (in) "The output voltage feedback pin, VFB, is externally connected to the supply output voltage via a resistive divider. The VFB pin is internally connected to the inverting input of the error amplifier. In regulation, VFB is 1.(See Datasheet)", 7 VC "The VC pin is the output of the error amplifier whose voltage corresponds to the maximum (peak) switch current per oscillator cycle. The error amplifier is typically configured as an integrator circuit by connecting an RC (See Datasheet)", 8 SGND (power) "The SGND pin is the low noise ground reference. It should be connected to the -VOUT side of the output capacitors. Careful layout of the PCB is necessary to keep high currents away from this SGND connection. See the (See Datasheet)", 9 SENSE- (in) "The SENSE- pin is the negative input for the current sense amplifier and is connected to the VOUT side of the sense resistor for step-down applications. The sensed inductor current limit is set to 150mV across the SENSE (See Datasheet)", 10 SENSE+ (in) "The SENSE+ pin is the positive input for the current sense amplifier and is connected to the inductor side of the sense resistor for step-down applications. The sensed inductor current limit is set to 150mV across the SENSE (See Datasheet)", 11 PGND (power) "The PGND pin is the high-current ground reference for internal low side switch and the VCC regulator circuit. Connect the pin directly to the negative terminal of the VCC decoupling capacitor. See the Application Information (See Datasheet)", 12 VCC (power) "The VCC pin is the internal bias supply decoupling node. Use a low ESR 1uF ceramic capacitor to decouple this node to PGND. Most internal IC functions are powered from this bias supply. An external diode connected from VCC (See Datasheet)", 13 NC "No Connection.", 14 SW "In step-down applications the SW pin is connected to the cathode of an external clamping Schottky diode, the source of the power MOSFET and the inductor. The SW node voltage swing is from VIN during the on-time of the power (See Datasheet)", 15 TG (out) "The TG pin is the bootstrapped gate drive for the top N-Channel MOSFET. Since very fast high currents are driven from this pin, connect it to the gate of the power MOSFET with a short and wide, typically 0.02?width, PC(See Datasheet)", 16 BOOST "The BOOST pin is the supply for the bootstrapped gate drive and is externally connected to a low ESR ceramic boost capacitor referenced to SW pin. The recommended value of the BOOST capacitor, CBOOST, is 50 times greater (See Datasheet)", 17 EP (power) "The exposed leadframe is internally connected to the SGND pin. Solder the exposed pad to the PCB ground for electrical contact and optimal thermal performance."